# Altium schematic symbol library IRFP460PBF.SchLib: 1 symbol
Pins are listed as number, name and electrical type; pins without a type are passive.

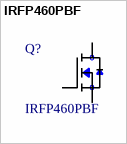
[diagram p0: symbol IRFP460PBF]

## IRFP460PBF
designator Q?
Mosfet, n, To-247ac; MF: Vishay Siliconix; Price: None; Package: TO-247 Vishay Siliconix; MP: IRFP460PBF; SnapEDA_Link: https://www.snapeda.com/parts/IRFP460PBF/Infineon%20Technologies/view-part/?ref=snap; Availability: Unavailable; Value: *
footprint TO546P1587X531X2511-3
pins: 1 G, 2 D, 3 S